# EAGLE library part ATMEGA328P-32PIN (library MrSwirlyEyes)
32 pin ATMEGA328P IC
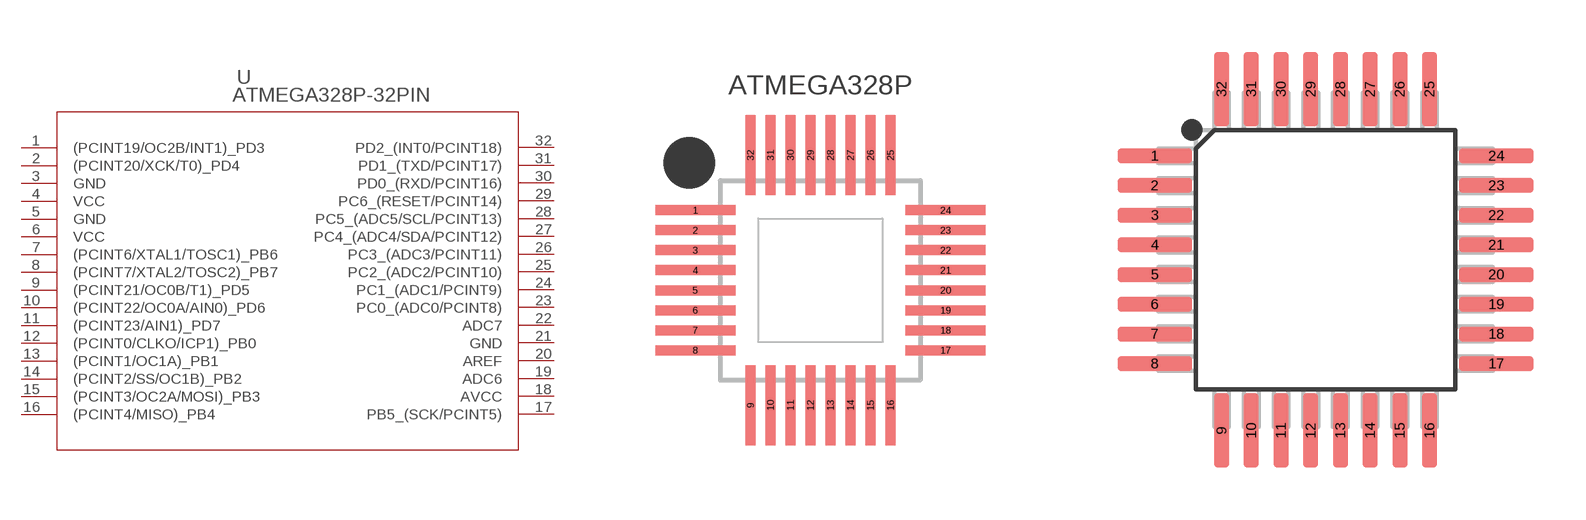
[diagram p13: symbol with the pads of ATMEGA328P-MURCT32; footprints ATMEGA328P-MURCT32, ATMEGA328P-AUR32]

Designator prefix U

## ATMEGA328P-32PINVQFN (CREATOR: Kenmei; DATASHEET: http://www.atmel.com/images/atmel-8271-8-bit-avr-microcontroller-atmega48a-48pa-88a-88pa-168a-168pa-328-328p_datasheet_summary.pdf; DIST: Digikey; DISTLINK: https://www.digikey.com/product-detail/en/microchip-technology/ATMEGA328P-MNR/ATMEGA328P-MNRCT-ND/2774231; DISTPN: ATMEGA328P-MNRCT-ND; MFR: Microchip Technology; MPN: ATMEGA328P-MNR; TESTED: NO)  [ATMEGA328P-MURCT32]
1  (PCINT19/OC2B/INT1)_PD3
2  (PCINT20/XCK/T0)_PD4
3  GND  pwr
4  VCC  pwr
5  GND  pwr
6  VCC  pwr
7  (PCINT6/XTAL1/TOSC1)_PB6
8  (PCINT7/XTAL2/TOSC2)_PB7
9  (PCINT21/OC0B/T1)_PD5
10  (PCINT22/OC0A/AIN0)_PD6
11  (PCINT23/AIN1)_PD7
12  (PCINT0/CLKO/ICP1)_PB0
13  (PCINT1/OC1A)_PB1
14  (PCINT2/SS/OC1B)_PB2
15  (PCINT3/OC2A/MOSI)_PB3
16  (PCINT4/MISO)_PB4
17  PB5_(SCK/PCINT5)
18  AVCC  pwr
19  ADC6  in
20  AREF  pas
21  GND  pwr
22  ADC7  in
23  PC0_(ADC0/PCINT8)
24  PC1_(ADC1/PCINT9)
25  PC2_(ADC2/PCINT10)
26  PC3_(ADC3/PCINT11)
27  PC4_(ADC4/SDA/PCINT12)
28  PC5_(ADC5/SCL/PCINT13)
29  PC6_(RESET/PCINT14)
30  PD0_(RXD/PCINT16)
31  PD1_(TXD/PCINT17)
32  PD2_(INT0/PCINT18)

## ATMEGA328P-32PINTQFP (CREATOR: Kenmei; DATASHEET: http://www.atmel.com/images/Atmel-8271-8-bit-AVR-Microcontroller-ATmega48A-48PA-88A-88PA-168A-168PA-328-328P_datasheet_Complete.pdf; DIST: Digikey; DISTLINK: https://www.digikey.com/product-detail/en/microchip-technology/ATMEGA328P-AUR/ATMEGA328P-AURCT-ND/3789455; DISTPN: ATMEGA328P-AURCT-ND; MFR: Microchip Technology; MPN: ATMEGA328P-AUR; TESTED: No)  [ATMEGA328P-AUR32]
Pads as for ATMEGA328P-MURCT32

## Footprint ATMEGA328P-MURCT32 (pad centres in mm)
smd 2 x 0.25: 1 -3.13,1.751; 2 -3.13,1.251; 3 -3.13,0.751; 4 -3.13,0.25; 5 -3.13,-0.25; 6 -3.13,-0.751; 7 -3.13,-1.251; 8 -3.13,-1.751; 17 3.13,-1.751; 18 3.13,-1.251; 19 3.13,-0.751; 20 3.13,-0.25; 21 3.13,0.25; 22 3.13,0.751; 23 3.13,1.251; 24 3.13,1.751
smd 0.25 x 2: 9 -1.751,-3.13; 10 -1.251,-3.13; 11 -0.751,-3.13; 12 -0.25,-3.13; 13 0.25,-3.13; 14 0.751,-3.13; 15 1.251,-3.13; 16 1.751,-3.13; 25 1.751,3.13; 26 1.251,3.13; 27 0.751,3.13; 28 0.25,3.13; 29 -0.25,3.13; 30 -0.751,3.13; 31 -1.251,3.13; 32 -1.751,3.13

## Footprint ATMEGA328P-AUR32 (pad centres in mm)
smd 2 x 0.4: 1 -4.6,2.8; 2 -4.6,2; 3 -4.6,1.2; 4 -4.6,0.4; 5 -4.6,-0.4; 6 -4.6,-1.2; 7 -4.6,-2; 8 -4.6,-2.8; 17 4.6,-2.8; 18 4.6,-2; 19 4.6,-1.2; 20 4.6,-0.4; 21 4.6,0.4; 22 4.6,1.2; 23 4.6,2; 24 4.6,2.8
smd 0.4 x 2: 9 -2.8,-4.6; 10 -2,-4.6; 11 -1.2,-4.6; 12 -0.4,-4.6; 13 0.4,-4.6; 14 1.2,-4.6; 15 2,-4.6; 16 2.8,-4.6; 25 2.8,4.6; 26 2,4.6; 27 1.2,4.6; 28 0.4,4.6; 29 -0.4,4.6; 30 -1.2,4.6; 31 -2,4.6; 32 -2.8,4.6